# Altium footprint library PCB - CONNECTOR - BEL FUSE - Bel Fuse - 0826-1X1T-32-F.PcbLib: 1 footprints
Each footprint in its own frame and in the unit in brackets; x right, y up, seen from the top. Pads: shape width x height; smd on the part's side, far side on the other; paste and mask are expansions set on the pad; w line width, h text height; cw(c..) or ccw(c..) is an arc to the next point about the centre after c.
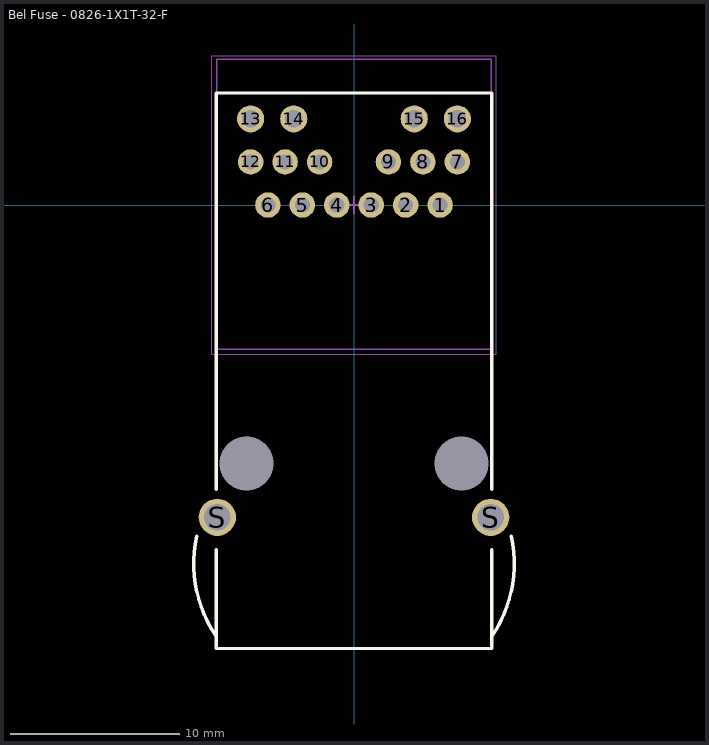
[diagram p0: the footprint, top view; thin cyan lines are the x and y axes]

## Bel Fuse - 0826-1X1T-32-F [mm] "1 Port RJ45 Through Hole 1000Base-T"
height 15
pads (20):
  round 1.5 hole 0.89: 1(5.08,0) 2(3.048,0) 3(1.016,0) 4(-1.016,0) 5(-3.048,0) 6(-5.08,0) 7(6.096,2.54) 8(4.064,2.54) 9(2.032,2.54) 10(-2.032,2.54) 11(-4.064,2.54) 12(-6.096,2.54)
  round 1.6 hole 1.02: 13(-6.096,5.08) 14(-3.556,5.08) 15(3.556,5.08) 16(6.096,5.08)
  round 2.2 hole 1.57: S(-8.065,-18.42) S(8.065,-18.42)
  round 0 hole 3.18 unplated: S1(-6.35,-15.24) S1(6.35,-15.24)
Top Overlay:
  lines w0.2: -9.267,-19.531 ccw(c-1.882,-21.171) -8.147,-25.413 ; -8.128,-20.32 -8.128,-26.162 8.128,-26.162 8.128,-20.32 ; -8.128,-16.764 -8.128,6.604 8.128,6.604 8.128,-16.764 ; 8.147,-25.413 ccw(c1.882,-21.171) 9.267,-19.531
Mechanical 13:
  lines w0.1: -8.1,-8.5 8.1,-8.5 8.1,8.6 -8.1,8.6 -8.1,-8.5
Mechanical 15:
  lines w0.05: -8.4,-8.8 8.4,-8.8 8.4,8.8 -8.4,8.8 -8.4,-8.8
  lines w0.1: -0.5,0 0.5,0 ; 0,-0.5 0,0.5
3D body "Bel Fuse - 0826-1X1T-32-F.step": height 15.1, standoff -3.54, extent -9.493,-26.844 9.493,6.554